# Altium footprint library XT60PW.PcbLib: 2 footprints
Each footprint in its own frame and in the unit in brackets; x right, y up, seen from the top. Pads: shape width x height; smd on the part's side, far side on the other; paste and mask are expansions set on the pad; w line width, h text height; cw(c..) or ccw(c..) is an arc to the next point about the centre after c.
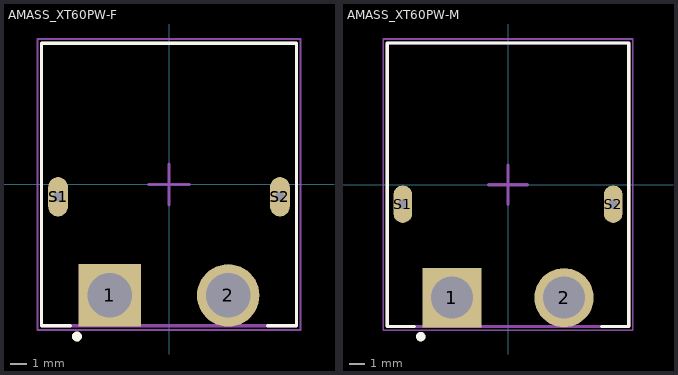
[diagram p0: the footprints below, top view; thin cyan lines are the x and y axes]

## AMASS_XT60PW-F [mm]
pads (4):
  rect 3.8x3.8 hole 2.7: 1(-3.6,-6.75)
  round 3.8 hole 2.7: 2(3.6,-6.75)
  oval 1.2x2.4 hole 0.6 square: S1(-6.75,-0.75) S2(6.75,-0.75)
Top Overlay:
  circle w0.3: c-5.6,-9.25 r0.15
  lines w0.2: -6,-8.6 -7.75,-8.6 -7.75,8.6 7.75,8.6 7.75,-8.6 6,-8.6
Mechanical 13:
  circle w0.3: c-5.6,-9.25 r0.15
  lines w0.2: -7.75,-8.6 7.75,-8.6 7.75,8.6 -7.75,8.6 -7.75,-8.6
Mechanical 15:
  lines w0.1: -8,-8.85 8,-8.85 8,8.85 -8,8.85 -8,-8.85
  lines w0.2: -1.25,0 1.25,0 ; 0,-1.25 0,1.25
3D body "XT60PW-F.step": height 8.4, standoff -2.55, extent -7.75,-8.6 7.75,8.6

## AMASS_XT60PW-M [mm]
pads (4):
  rect 3.8x3.8 hole 2.7: 1(-3.6,-7.25)
  round 3.8 hole 2.7: 2(3.6,-7.25)
  oval 1.2x2.4 hole 0.6 square: S1(-6.75,-1.25) S2(6.75,-1.25)
Top Overlay:
  circle w0.3: c-5.6,-9.75 r0.15
  lines w0.2: -6,-9.1 -7.75,-9.1 -7.75,9.1 7.75,9.1 7.75,-9.1 6,-9.1
Mechanical 13:
  circle w0.3: c-5.6,-9.75 r0.15
  lines w0.2: -7.75,-9.1 7.75,-9.1 7.75,9.1 -7.75,9.1 -7.75,-9.1
Mechanical 15:
  lines w0.1: -8,-9.35 -8,9.35 8,9.35 8,-9.35 -8,-9.35
  lines w0.2: -1.25,0 1.25,0 ; 0,-1.25 0,1.25
3D body "XT60PW-M_v2.step": height 8.4, standoff -2.55, extent -7.75,-9.1 7.75,9.1